# Altium footprint library TB622-098.304M.PcbLib: 1 footprints
Each footprint in its own frame and in the unit in brackets; x right, y up, seen from the top. Pads: shape width x height; smd on the part's side, far side on the other; paste and mask are expansions set on the pad; w line width, h text height; cw(c..) or ccw(c..) is an arc to the next point about the centre after c.
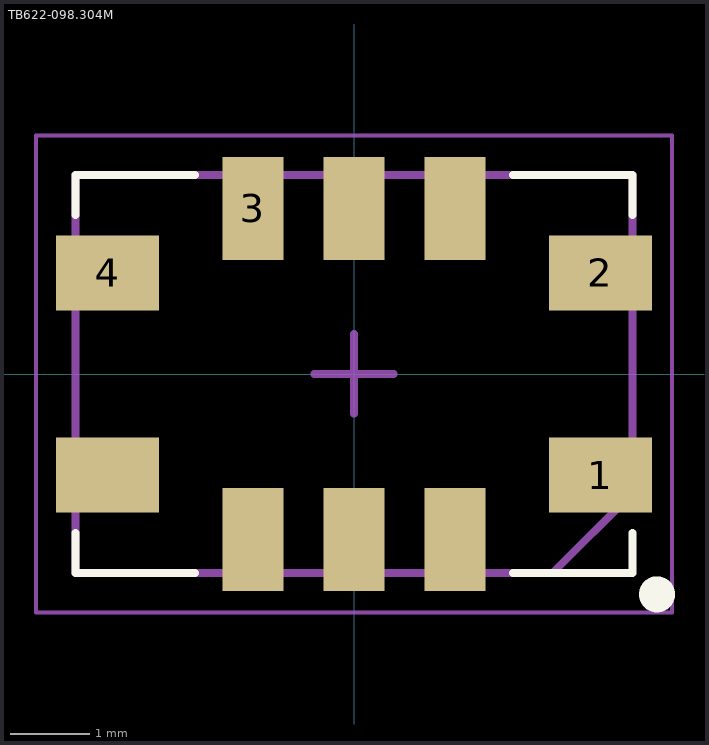
[diagram p0: the footprint, top view; thin cyan lines are the x and y axes]

## TB622-098.304M [mil]
pads (10):
  rect 51x37 smd: 1(122,-50) 2(122,50) 4(-122,50) ""(-122,-50)
  rect 30x51 smd: 3(-50,82) ""(-50,-82) ""(0,-82) ""(0,82) ""(50,-82) ""(50,82)
Top Overlay:
  circle w10: c150,-109.06 r3.94
  lines w3.94: -137.8,-78.74 -137.8,-98.43 -78.74,-98.43 ; -137.8,78.74 -137.8,98.43 -78.74,98.43 ; 78.74,-98.43 137.8,-98.43 137.8,-78.74 ; 78.74,98.43 137.8,98.43 137.8,78.74
Mechanical 1:
  lines w3.94: -137.8,-98.43 98.43,-98.43 137.8,-59.06 137.8,98.43 -137.8,98.43 -137.8,-98.43
  text ".Designator" at -125,-10.17 h25.59
Mechanical 2:
  lines w1.97: -157.48,-118.11 157.48,-118.11 157.48,118.11 -157.48,118.11 -157.48,-118.11
  lines w3.94: -19.68,0 19.68,0 ; 0,-19.68 0,19.69